# Altium footprint library DT13-12P-G003.PcbLib: 1 footprints
Each footprint in its own frame and in the unit in brackets; x right, y up, seen from the top. Pads: shape width x height; smd on the part's side, far side on the other; paste and mask are expansions set on the pad; w line width, h text height; cw(c..) or ccw(c..) is an arc to the next point about the centre after c.
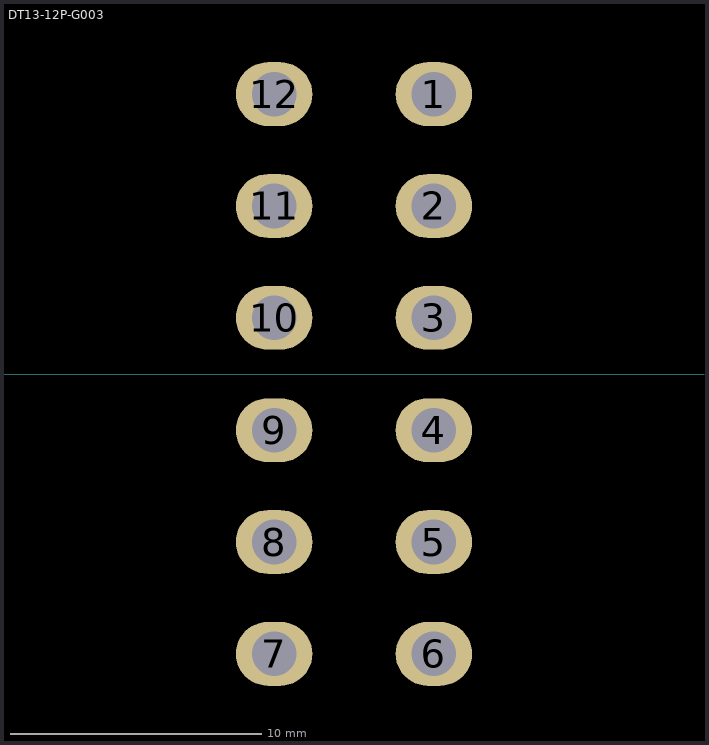
[diagram p0: the footprint, top view; thin cyan lines are the x and y axes]

## DT13-12P-G003 [mil] "Connector"
pads (12):
  oval 120x100 hole 70: 1(860,438) 2(860,263) 3(860,88) 4(860,-88) 5(860,-263) 6(860,-438) 7(610,-438) 8(610,-263) 9(610,-88) 10(610,88) 11(610,263) 12(610,438)
3D body "c-dt13-12pa-g003-b-3d.stp": height 1415, standoff -106, extent -575,-1165 985,1165